# EAGLE library part 40XX_4050 (library Node)
Hex non-inverting BUFFER
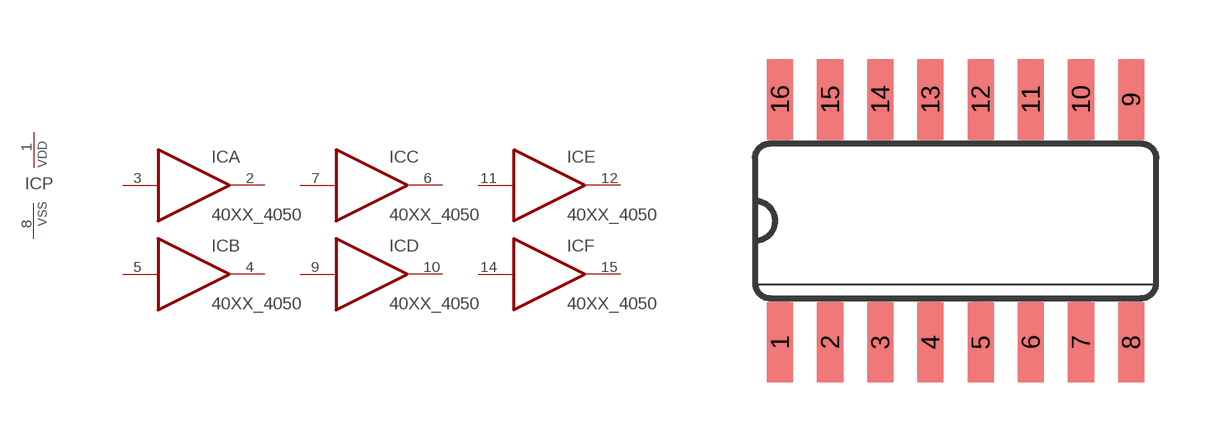
[diagram p0: symbol with the pads of 40XX_SO16; footprint 40XX_SO16]

Designator prefix IC; gates A=40XX_4050 B=40XX_4050 C=40XX_4050 D=40XX_4050 E=40XX_4050 F=40XX_4050 P=40XX_PWRN

## 40XX_4050D  [40XX_SO16]
1  P:VDD  pwr
2  A:O  out
3  A:I  in
4  B:O  out
5  B:I  in
6  C:O  out
7  C:I  in
8  P:VSS  pwr
9  D:I  in
10  D:O  out
11  E:I  in
12  E:O  out
14  F:I  in
15  F:O  out

## Footprint 40XX_SO16 (pad centres in mm)
Small Outline package 150 mil
smd 0.66 x 2.032: 1 -4.445,-3.073; 2 -3.175,-3.073; 3 -1.905,-3.073; 4 -0.635,-3.073; 5 0.635,-3.073; 6 1.905,-3.073; 7 3.175,-3.073; 8 4.445,-3.073; 9 4.445,3.073; 10 3.175,3.073; 11 1.905,3.073; 12 0.635,3.073; 13 -0.635,3.073; 14 -1.905,3.073; 15 -3.175,3.073; 16 -4.445,3.073